# EAGLE library part IR2112 (library 1irf)
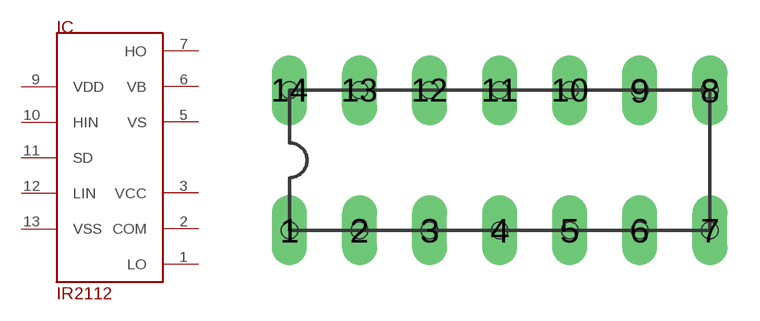
[diagram p0: symbol with the pads of DIL14; footprint DIL14]

Designator prefix IC

## IR2112  [DIL14]
1  LO  out
2  COM  sup
3  VCC  sup
5  VS  sup
6  VB  sup
7  HO  out
9  VDD  sup
10  HIN  in
11  SD  in
12  LIN  in
13  VSS  sup

## Footprint DIL14 (pad centres in mm)
drill 0.5 pad 1.27 long: 1 -2.54,-2.54; 2 0,-2.54; 3 2.54,-2.54; 4 5.08,-2.54; 5 7.62,-2.54; 6 10.16,-2.54; 7 12.7,-2.54; 8 12.7,2.54; 9 10.16,2.54; 10 7.62,2.54; 11 5.08,2.54; 12 2.54,2.54; 13 0,2.54; 14 -2.54,2.54
hole 0.6 at -2.54,-2.54
hole 0.6 at 0,-2.54
hole 0.6 at 2.54,-2.54
hole 0.6 at 5.08,-2.54
hole 0.6 at 7.62,-2.54
hole 0.6 at 10.16,-2.54
hole 0.6 at 12.7,-2.54
hole 0.6 at 12.7,2.54
hole 0.6 at 10.16,2.54
hole 0.6 at 7.62,2.54
hole 0.6 at 5.08,2.54
hole 0.6 at 2.54,2.54
hole 0.6 at 0,2.54
hole 0.6 at -2.54,2.54